# Altium schematic symbol library 503480-1200.Schlib: 1 symbol
Pins are listed as number, name and electrical type; pins without a type are passive.

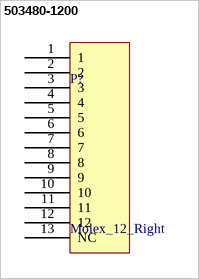
[diagram p0: symbol 503480-1200]

## 503480-1200
designator P?, comment Molex_12_Right
12 Pin Right 0.5mm pitch Dual Contact Easy-On FFC/FPC
pins: 1, 2, 3, 4, 5, 6, 7, 8, 9, 10, 11, 12, 13 NC